# Altium schematic symbol library J继电器.SchLib: 4 symbols
Pins are listed as number, name and electrical type; pins without a type are passive.

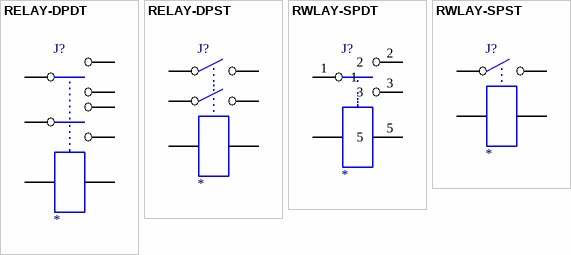
[diagram p0: symbols RELAY-DPDT to RWLAY-SPST]

## RELAY-DPDT
designator J?
footprint JK-2
pins: 1, 2, 3, 4, 5, 6, 7, 8

## RELAY-DPST
designator J?
footprint JK-2
pins: 1, 2, 3, 4, 5, 6

## RWLAY-SPDT
designator J?
footprint JK-2
pins: 1, 2, 3, 4, 5

## RWLAY-SPST
designator J?
footprint JK-2
pins: 1, 2, 3, 4